# Altium footprint library NewLibrary.PcbLib: 126 footprints (part 4 of 8)
Each footprint in its own frame and in the unit in brackets; x right, y up, seen from the top. Pads: shape width x height; smd on the part's side, far side on the other; paste and mask are expansions set on the pad; w line width, h text height; cw(c..) or ccw(c..) is an arc to the next point about the centre after c.
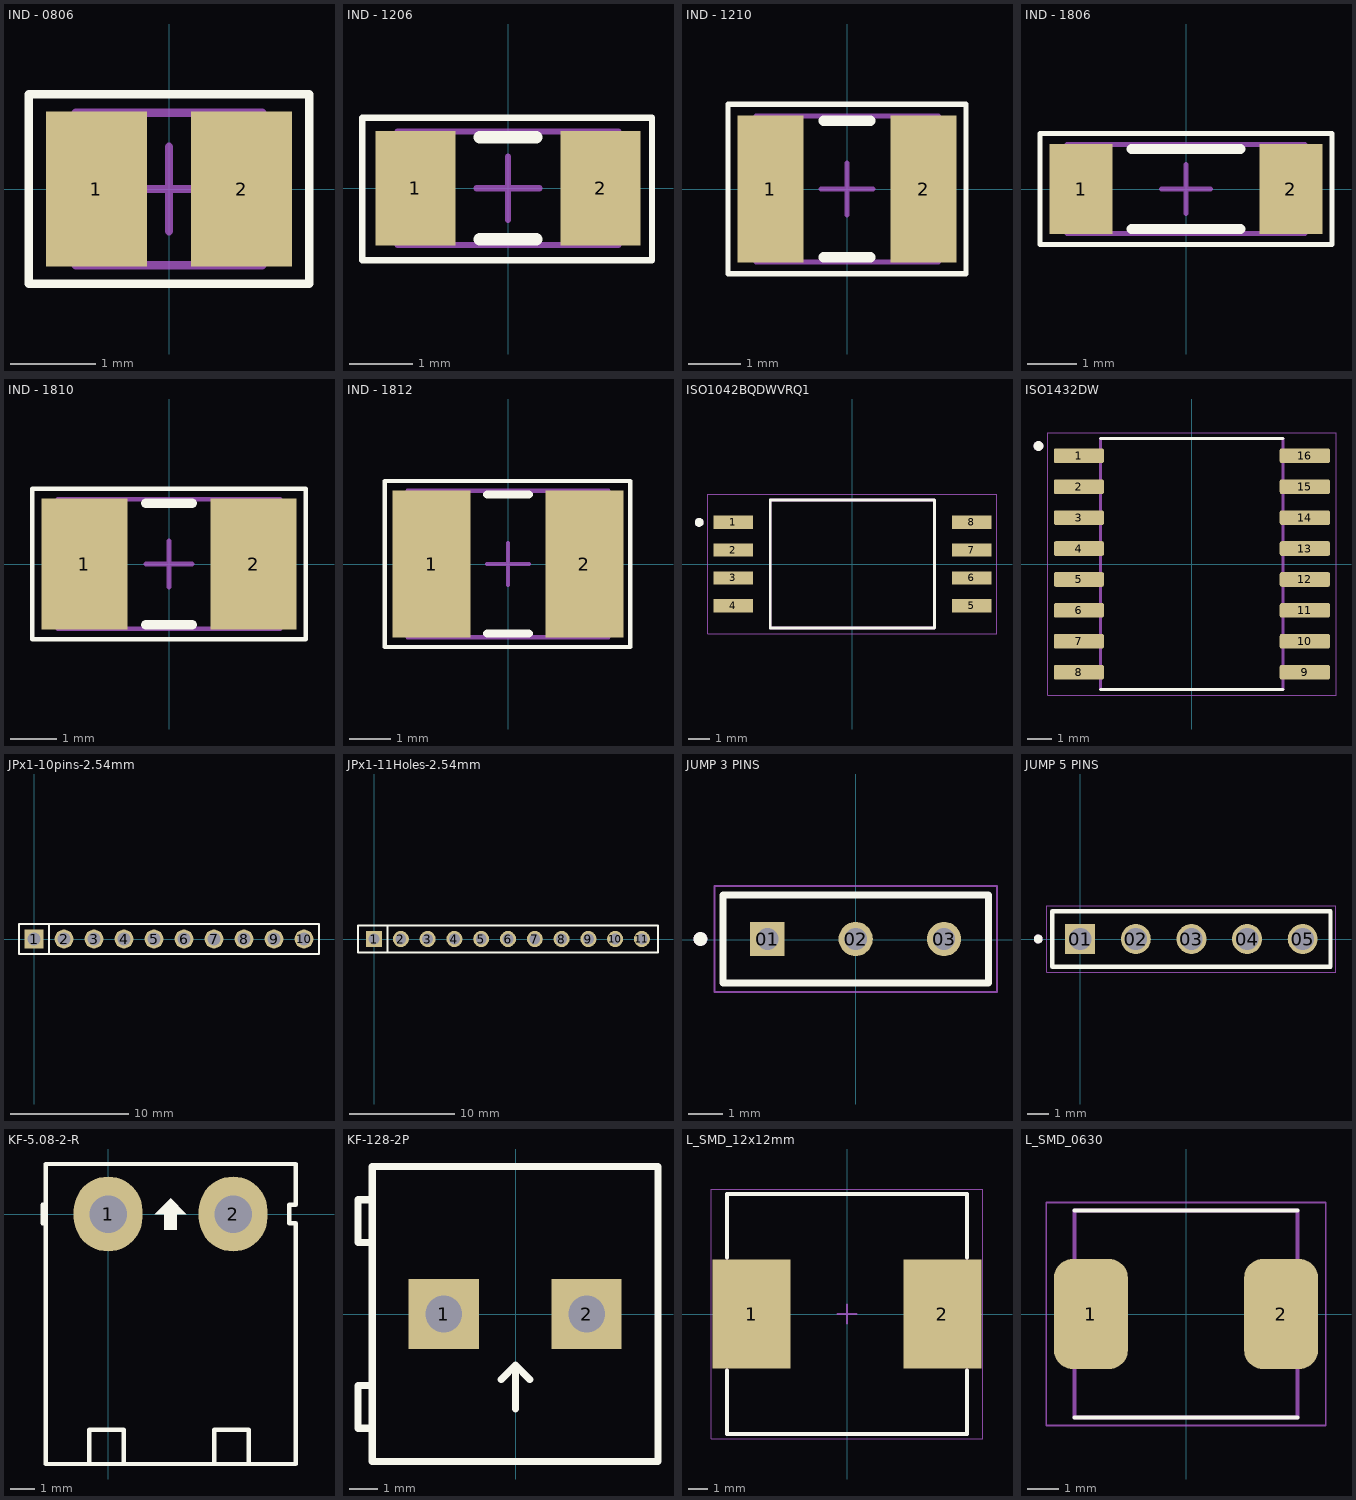
[diagram p3: the footprints below, top view; thin cyan lines are the x and y axes]

## IND - 0806 [mm] "Inductor SMD - 2016 - KEMET"
height 1.8
pads (2):
  rect 1.19x1.82 smd: 1(-0.855,0) 2(0.855,0)
Top Overlay:
  lines w0.1: -1.651,-1.118 1.651,-1.118 1.651,1.118 -1.651,1.118 -1.651,-1.118
Mechanical 13:
  lines w0.1: -1.1,-0.9 1.1,-0.9 1.1,0.9 -1.1,0.9 -1.1,-0.9
Mechanical 15:
  lines w0.1: -0.5,0 0.5,0 ; 0,-0.5 0,0.5
3D body "IND - 0806.step": height 1.8, standoff 0, extent -1.1,-0.9 1.1,0.9

## IND - 1206 [mm] "Inductor SMD - 3216 - KEMET"
height 1.8
pads (2):
  rect 1.27x1.82 smd: 1(-1.47,0) 2(1.47,0)
Top Overlay:
  lines w0.1: -2.311,-1.143 2.286,-1.143 2.286,1.118 -2.311,1.118 -2.311,-1.143
  lines w0.2: -0.45,-0.81 0.45,-0.81 ; -0.45,0.81 0.45,0.81
Mechanical 13:
  lines w0.1: -1.75,-0.9 -1.75,0.9 1.75,0.9 1.75,-0.9 -1.75,-0.9
Mechanical 15:
  lines w0.1: -0.5,0 0.5,0 ; 0,-0.5 0,0.5
3D body "IND - 1206.step": height 1.8, standoff 0, extent -1.75,-0.9 1.75,0.9

## IND - 1210 [mm] "Inductor SMD - 3225 - KEMET"
height 2.8
pads (2):
  rect 1.27x2.82 smd: 1(-1.47,0) 2(1.47,0)
Top Overlay:
  lines w0.1: -2.286,-1.626 -2.286,1.626 2.286,1.626 2.286,-1.626 -2.286,-1.626
  lines w0.2: -0.45,-1.31 0.45,-1.31 ; -0.45,1.31 0.45,1.31
Mechanical 13:
  lines w0.1: -1.75,-1.4 -1.75,1.4 1.75,1.4 1.75,-1.4 -1.75,-1.4
Mechanical 15:
  lines w0.1: -0.5,0 0.5,0 ; 0,-0.5 0,0.5
3D body "IND - 1210.step": height 2.8, standoff 0, extent -1.75,-1.4 1.75,1.4

## IND - 1806 [mm] "Inductor SMD - 4516 - KEMET"
height 2.8
pads (2):
  rect 1.27x1.82 smd: 1(-2.12,0) 2(2.12,0)
Top Overlay:
  lines w0.1: -2.946,-1.118 2.946,-1.118 2.946,1.118 -2.946,1.118 -2.946,-1.118
  lines w0.2: -1.1,-0.81 1.1,-0.81 ; -1.1,0.81 1.1,0.81
Mechanical 13:
  lines w0.1: -2.4,-0.9 -2.4,0.9 2.4,0.9 2.4,-0.9 -2.4,-0.9
Mechanical 15:
  lines w0.1: -0.5,0 0.5,0 ; 0,-0.5 0,0.5
3D body "IND - 1806.step": height 2.8, standoff 0, extent -2.4,-0.9 2.4,0.9

## IND - 1810 [mm] "Inductor SMD - 4525 - KEMET"
height 2.8
pads (2):
  rect 1.86x2.82 smd: 1(-1.825,0) 2(1.825,0)
Top Overlay:
  lines w0.1: -2.946,-1.626 2.946,-1.626 2.946,1.626 -2.946,1.626 -2.946,-1.626
  lines w0.2: -0.5,-1.31 0.5,-1.31 ; -0.5,1.31 0.5,1.31
Mechanical 13:
  lines w0.1: -2.4,-1.4 2.4,-1.4 2.4,1.4 -2.4,1.4 -2.4,-1.4
Mechanical 15:
  lines w0.1: -0.5,0 0.5,0 ; 0,-0.5 0,0.5
3D body "IND - 1810.step": height 2.8, standoff 0, extent -2.4,-1.4 2.4,1.4

## IND - 1812 [mm] "Inductor SMD - 4532 - KEMET"
height 3.5
pads (2):
  rect 1.86x3.52 smd: 1(-1.825,0) 2(1.825,0)
Top Overlay:
  lines w0.1: -2.946,-1.981 2.921,-1.981 2.921,1.981 -2.946,1.981 -2.946,-1.981
  lines w0.2: -0.5,-1.66 0.5,-1.66 ; -0.5,1.66 0.5,1.66
Mechanical 13:
  lines w0.1: -2.4,-1.75 2.4,-1.75 2.4,1.75 -2.4,1.75 -2.4,-1.75
Mechanical 15:
  lines w0.1: -0.5,0 0.5,0 ; 0,-0.5 0,0.5
3D body "IND - 1812.step": height 3.5, standoff 0, extent -2.4,-1.75 2.4,1.75

## ISO1042BQDWVRQ1 [mm] "1/1 Transceiver, Isolated Full CANbus 8-SOIC"
pads (8):
  rect 1.8x0.6 smd mask+0.07: 1(-5.45,1.905) 2(-5.45,0.635) 3(-5.45,-0.635) 4(-5.45,-1.905) 5(5.45,-1.905) 6(5.45,-0.635) 7(5.45,0.635) 8(5.45,1.905)
Top Overlay:
  circle w0.2: c-7,1.9 r0.1
  lines w0.127: -3.75,-2.925 3.75,-2.925 3.75,2.925 -3.75,2.925 -3.75,-2.925
Mechanical 13:
  circle w0.2: c-7,1.9 r0.1
  lines w0.127: -3.75,-2.925 3.75,-2.925 3.75,2.925 -3.75,2.925 -3.75,-2.925
Mechanical 15:
  lines w0.05: -6.6,-3.175 6.6,-3.175 6.6,3.175 -6.6,3.175 -6.6,-3.175
3D body "step_temp.STEP": height 2.8, standoff 0, extent -5.75,-2.925 5.75,2.925

## ISO1432DW [mm] "1/1 Transceiver, Isolated Full RS422, RS485 16-SOIC"
pads (16):
  rrect25% 2.06x0.6 smd: 1(-4.64,4.445) 2(-4.64,3.175) 3(-4.64,1.905) 4(-4.64,0.635) 5(-4.64,-0.635) 6(-4.64,-1.905) 7(-4.64,-3.175) 8(-4.64,-4.445) 9(4.64,-4.445) 10(4.64,-3.175) 11(4.64,-1.905) 12(4.64,-0.635) 13(4.64,0.635) 14(4.64,1.905) 15(4.64,3.175) 16(4.64,4.445)
Top Overlay:
  circle w0.2: c-6.3,4.845 r0.1
  lines w0.127: -3.75,-5.15 3.75,-5.15 ; -3.75,5.15 3.75,5.15
Mechanical 13:
  circle w0.2: c-6.3,4.845 r0.1
  lines w0.127: -3.75,-5.15 -3.75,5.15 3.75,5.15 3.75,-5.15 -3.75,-5.15
Mechanical 15:
  lines w0.05: -5.92,-5.4 -5.92,5.4 5.92,5.4 5.92,-5.4 -5.92,-5.4
3D body "step_temp.STEP": height 2.65, standoff 0, extent -5.15,-5.15 5.15,5.15

## JPx1-10pins-2.54mm [mm] "DIP"
pads (10):
  rect 1.6x1.6 hole 1.1: 1(0,0)
  round 1.6 hole 1.1: 2(2.54,0) 3(5.08,0) 4(7.62,0) 5(10.16,0) 6(12.7,0) 7(15.24,0) 8(17.78,0) 9(20.32,0) 10(22.86,0)
Top Overlay:
  lines w0.2: 1.27,-1.27 1.27,1.27 ; -1.27,-1.27 -1.27,1.27 0.635,1.27 24.13,1.27 24.13,-1.27 -1.27,-1.27
3D body "61301011121.stp": height 8.54, standoff -3, extent -1.27,-1.27 24.13,1.27

## JPx1-11Holes-2.54mm [mm] "DIP"
pads (11):
  rect 1.52x1.52 hole 1.02: 1(0,0)
  round 1.52 hole 1.02: 2(2.54,0) 3(5.08,0) 4(7.62,0) 5(10.16,0) 6(12.7,0) 7(15.24,0) 8(17.78,0) 9(20.32,0) 10(22.86,0) 11(25.4,0)
Top Overlay:
  lines w0.2: 1.27,-1.27 1.27,1.27 ; -1.52,-1.27 26.92,-1.27 26.92,1.27 0.635,1.27 -1.52,1.27 -1.52,-1.27

## JUMP 3 PINS [mm] "JUMP DIP"
pads (3):
  rect 0.985x0.985 hole 0.635: 01(-2.54,0.025)
  round 0.985 hole 0.635: 02(0,0.025) 03(2.54,0.025)
Top Overlay:
  circle w0.2: c-4.46,0.025 r0.1
  lines w0.2: -3.81,-1.245 -3.81,1.295 3.81,1.295 3.81,-1.245 -3.81,-1.245
Mechanical 13:
  circle w0.2: c-4.46,0.025 r0.1
  lines w0.1: -3.81,-1.245 -3.81,1.295 ; -3.81,-1.245 3.81,-1.245 ; -3.81,-1.245 -3.81,1.295 ; -3.81,1.295 3.81,1.295 ; -3.81,1.295 3.81,1.295 ; 3.81,-1.245 3.81,1.295 ; 3.81,-1.245 3.81,1.295
Mechanical 15:
  lines w0.05: -4.06,-1.495 -4.06,1.545 4.06,1.545 4.06,-1.495 -4.06,-1.495
3D body "HTSW-103-26-G-S.stp": height 8.48, standoff -3.1, extent -3.81,-1.194 3.81,1.295

## JUMP 5 PINS [mm] "JUMP 5 PINS DIP"
pads (5):
  rect 1.37x1.37 hole 1.02: 01(0,0)
  round 1.37 hole 1.02: 02(2.54,0) 03(5.08,0) 04(7.62,0) 05(10.16,0)
Top Overlay:
  circle w0.2: c-1.92,0 r0.1
  lines w0.2: -1.27,-1.27 -1.27,1.27 11.43,1.27 11.43,-1.27 -1.27,-1.27
Mechanical 13:
  circle w0.2: c-1.92,0 r0.1
  lines w0.1: -1.27,-1.27 -1.27,1.27 11.43,1.27 11.43,-1.27 -1.27,-1.27
Mechanical 15:
  lines w0.05: -1.52,-1.52 -1.52,1.52 11.68,1.52 11.68,-1.52 -1.52,-1.52
3D body "TSW-105-23-L-S-LL.stp": height 8.38, standoff -2.92, extent -1.397,-1.27 11.43,1.27

## KF-5.08-2-R [mil]
pads (2):
  oval 110x120 hole 60: 1(0,0) 2(200,0)
Top Overlay:
  region: 100,25 75,0 90,0 90,-25 110,-25 110,0 125,0
  lines w7: -105,-15 -105,15 ; -30,-400 -30,-345 25,-345 25,-400 ; 170,-400 170,-345 225,-345 225,-400 ; -100,-400 300,-400 300,-15 290,-15 290,15 300,15 300,80 180.5,80 -18.5,80 -100,80 -100,-400
3D body "SW3dPS-5EHDR_2P.STEP": height 333.51, standoff -157.48, extent -96.7,-399.22 297,73.22

## KF-128-2P [mm] "DIP"
pads (2):
  rect 2.5x2.5 hole 1.3: 1(-2.553,0) 2(2.527,0)
Top Overlay:
  lines w0.254: -0.508,-2.324 0,-1.816 ; 0,-3.378 0,-1.816 ; 0.508,-2.324 0,-1.816 ; -5.601,-4.064 -5.093,-4.064 -5.093,-2.54 -5.601,-2.54 -5.601,-4.064 ; -5.601,2.54 -5.601,4.064 -5.093,4.064 -5.093,2.54 -5.601,2.54 ; -5.093,-5.25 5.067,-5.25 5.067,5.25 -5.093,5.25 -5.093,-5.25
3D body "User Library-TER-KF128-2P.step": height 14.35, standoff -4.95, extent -5.693,-5.25 5.067,5.25

## L_SMD_12x12mm [mm]
pads (2):
  rect 4x5.6 smd: 1(-4.9,0) 2(4.9,0)
Top Overlay:
  lines w0.2: -6.15,-2.9 -6.15,-6.15 6.15,-6.15 6.15,-2.9 ; -6.15,2.9 -6.15,6.15 6.15,6.15 6.15,2.9
Bottom Assembly:
  lines w0.05: -6.975,-6.4 6.975,-6.4 6.975,6.4 -6.975,6.4 -6.975,-6.4
  lines w0.1: -0.5,0 0.5,0 ; 0,-0.5 0,0.5
Bottom Courtyard:
  lines w0.1: -6.15,-6.15 6.15,-6.15 6.15,6.15 -6.15,6.15 -6.15,-6.15
3D body "L_SMD_12x12.STEP": height 8, standoff 0, extent -6,-6 6,6

## L_SMD_0630 [mm] "SMD"
pads (2):
  rrect50% 2.35x3.5 smd: 1(-3.025,0) 2(3.025,0)
Top Overlay:
  lines w0.127: -3.55,-3.3 3.55,-3.3 ; -3.55,3.3 3.55,3.3
Mechanical 13:
  lines w0.127: -3.55,-3.3 3.55,-3.3 3.55,3.3 -3.55,3.3 -3.55,-3.3
Mechanical 15:
  lines w0.05: -4.45,-3.55 4.45,-3.55 4.45,3.55 -4.45,3.55 -4.45,-3.55
3D body "step_temp.STEP": height 3.03, standoff 0.03, extent -3.6,-3.325 3.6,3.325